# Altium integrated library Microchip Mixed Signal.IntLib: 1063 symbols (part 15 of 28)
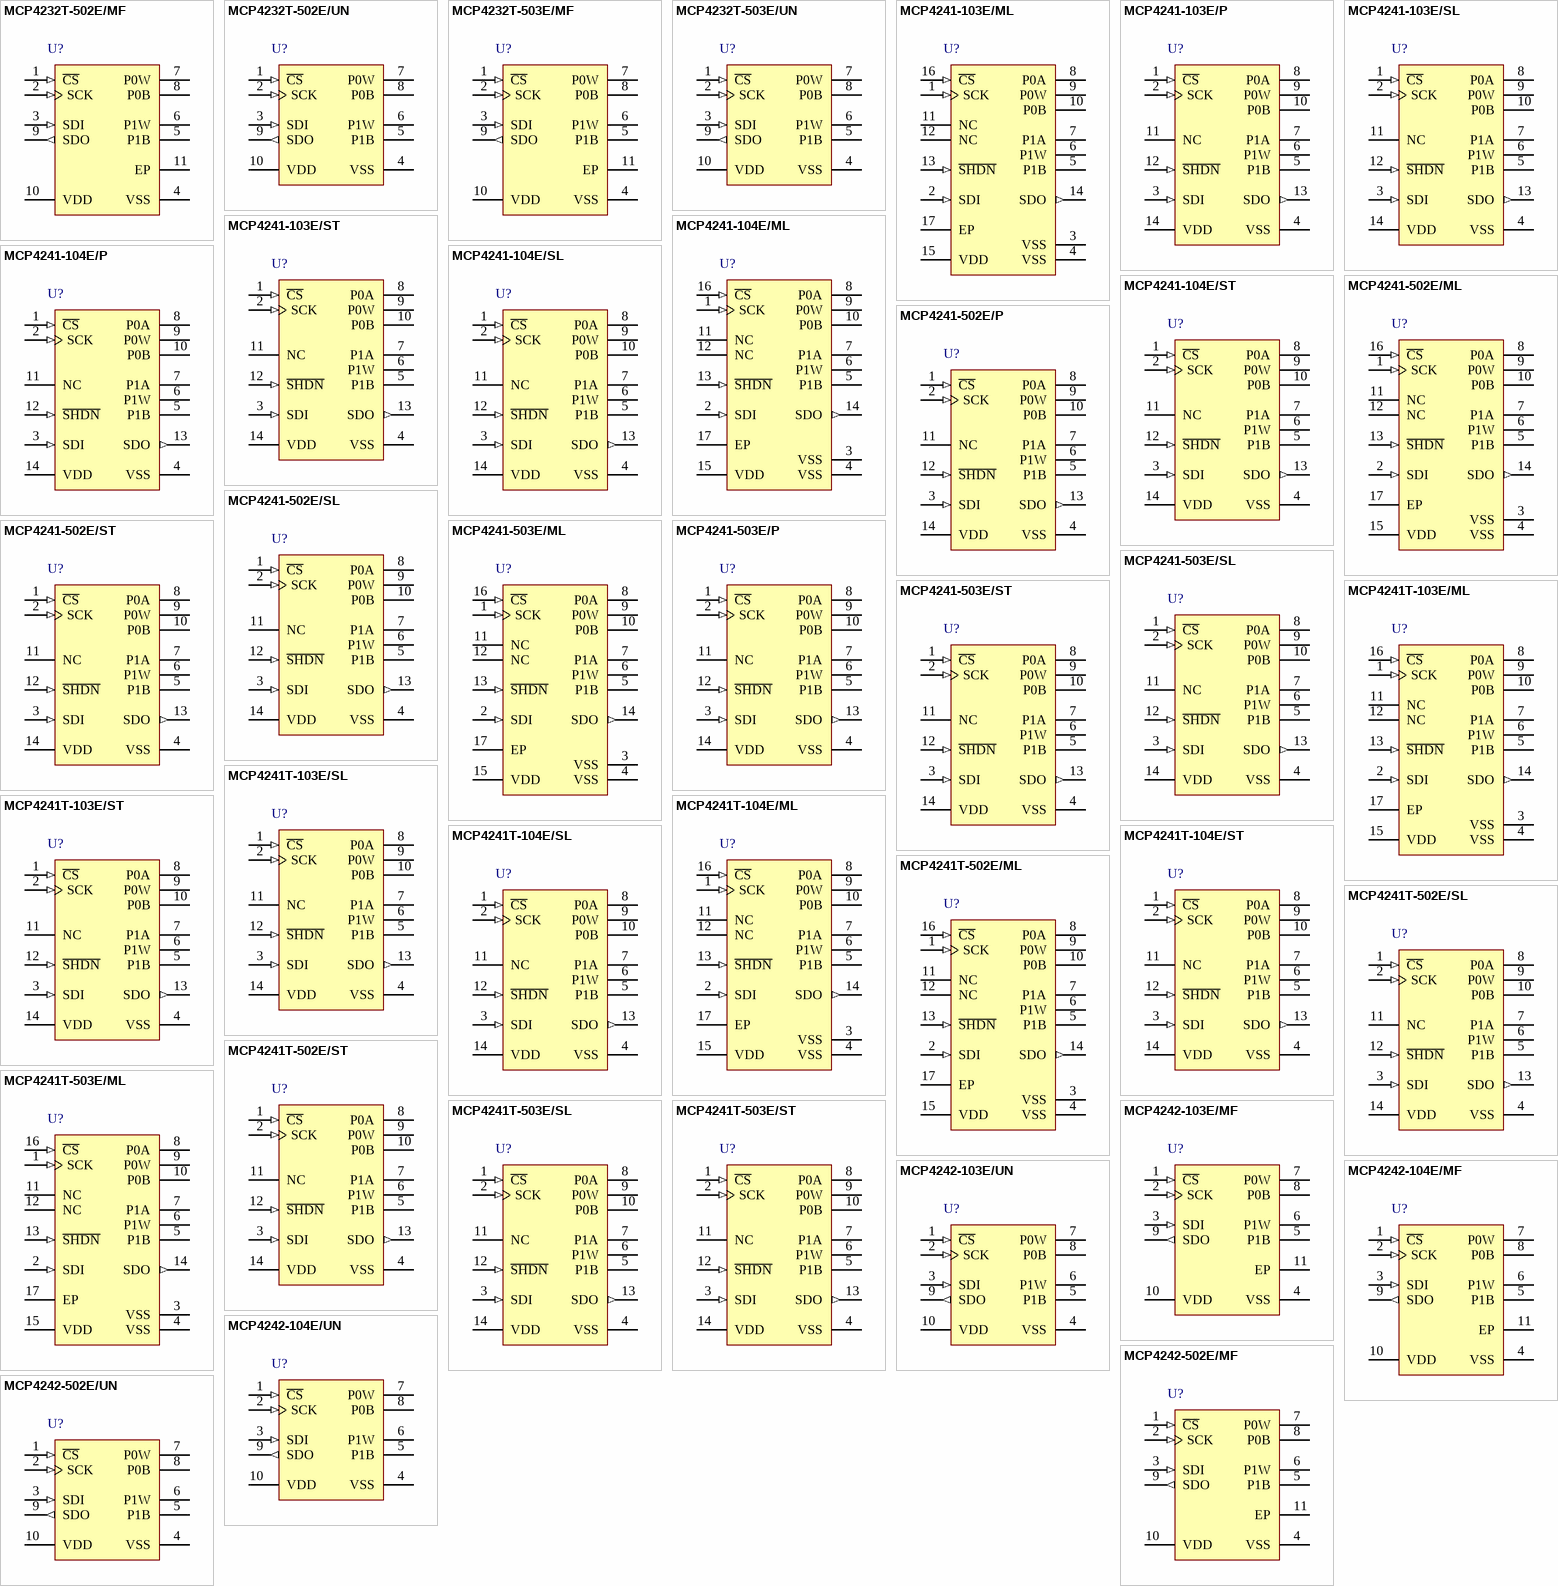
[diagram p45: symbols MCP4232T-502E/MF to MCP4242-502E/UN]

## MCP4241-503E/ML
designator U?
7/8-Bit Single/Dual SPI Digital POT with Non-Volatile Memory, 16-Pin QFN, Extended Temperature; Published: 29-Jan-2009; LatestRevisionDate: 02-Dec-2009; LatestRevisionNote: Updated to datasheet revision B, Dec-2008; DatasheetVersion: revB, Dec-2008; PackageVersion: revBB, Aug-2009; PackageReference: QFN-ML16; Publisher: Altium Limited; PackageDescription: 16-Lead Plastic Quad Flat, No Lead Package (ML) - 4x4x0.9 mm Body [QFN]; Supplier 1: Digi-Key; Supplier Part Number 1: MCP4241-503E/ML-ND; Code_JEDEC: MO-220; Code_IPC: QFN65P400X400-16V2; ComponentLink1Description: Datasheet; ComponentLink1URL: http://ww1.microchip.com/downloads/en/DeviceDoc/22059b.pdf; ComponentLink2Description: Packaging Specification; ComponentLink2URL: http://www.microchip.com/stellent/groups/techpub_sg/documents/packagingspec/en012702.pdf; ComponentLink3Description: Microchip.com Home; ComponentLink3URL: http://www.microchip.com/
footprint QFN-ML16_N (QFN, 16-Leads, Body 4x4 mm, Pitch 0.65mm, IPC Medium Density)
footprint QFN-ML16_L (QFN, 16-Leads, Body 4x4 mm, Pitch 0.65mm, IPC High Density)
footprint QFN-ML16_M (QFN, 16-Leads, Body 4x4 mm, Pitch 0.65mm, IPC Low Density)
pins: 1 SCK (in), 2 SDI (in), 3 VSS (power), 4 VSS (power), 5 P1B, 6 P1W, 7 P1A, 8 P0A, 9 P0W, 10 P0B, 11 NC, 12 NC, 13 ~{SHDN} (in), 14 SDO (out), 15 VDD (power), 16 ~{CS} (in), 17 EP

## MCP4241-503E/P
designator U?
7/8-Bit Single/Dual SPI Digital POT with Non-Volatile Memory, 14-Pin PDIP, Extended Temperature; Published: 29-Jan-2009; LatestRevisionDate: 02-Dec-2009; LatestRevisionNote: Updated to datasheet revision B, Dec-2008; DatasheetVersion: revB, Dec-2008; PackageVersion: revBB, Aug-2009; PackageReference: PDIP300-P14; Publisher: Altium Limited; PackageDescription: 14-Lead Plastic Dual In-Line (P) - 300 mil Body [PDIP]; Supplier 1: Digi-Key; Supplier Part Number 1: MCP4241-503E/P-ND; ComponentLink1Description: Datasheet; ComponentLink1URL: http://ww1.microchip.com/downloads/en/DeviceDoc/22059b.pdf; ComponentLink2Description: Packaging Specification; ComponentLink2URL: http://www.microchip.com/stellent/groups/techpub_sg/documents/packagingspec/en012702.pdf; ComponentLink3Description: Microchip.com Home; ComponentLink3URL: http://www.microchip.com/
footprint PDIP300-P14 (DIP, 14-Leads, Row Spacing 7.62mm, Pitch 2.54mm, Body 19.2x6.6mm)
pins: 1 ~{CS} (in), 2 SCK (in), 3 SDI (in), 4 VSS (power), 5 P1B, 6 P1W, 7 P1A, 8 P0A, 9 P0W, 10 P0B, 11 NC, 12 ~{SHDN} (in), 13 SDO (out), 14 VDD (power)

## MCP4241-503E/SL
designator U?
7/8-Bit Single/Dual SPI Digital POT with Non-Volatile Memory, 14-Pin SOIC 150mil, Extended Temperature; Published: 29-Jan-2009; LatestRevisionDate: 02-Dec-2009; LatestRevisionNote: Updated to datasheet revision B, Dec-2008; DatasheetVersion: revB, Dec-2008; PackageVersion: revBB, Aug-2009; PackageReference: SOIC-SL14; Publisher: Altium Limited; PackageDescription: 14-Lead Plastic Small Outline (SL) - Narrow, 3.90mm Body [SOIC]; Supplier 1: Digi-Key; Supplier Part Number 1: MCP4241-503E/SL-ND; Code_JEDEC: MS-012-AB; Code_IPC: SOIC127P600-14; ComponentLink1Description: Datasheet; ComponentLink1URL: http://ww1.microchip.com/downloads/en/DeviceDoc/22059b.pdf; ComponentLink2Description: Packaging Specification; ComponentLink2URL: http://www.microchip.com/stellent/groups/techpub_sg/documents/packagingspec/en012702.pdf; ComponentLink3Description: Microchip.com Home; ComponentLink3URL: http://www.microchip.com/
footprint SOIC-SL14_N (SOIC, 14-Leads, Body 8.7x3.9mm, Pitch 1.27mm, IPC Medium Density)
footprint SOIC-SL14_L (SOIC, 14-Leads, Body 8.7x3.9mm, Pitch 1.27mm, IPC High Density)
footprint SOIC-SL14_M (SOIC, 14-Leads, Body 8.7x3.9mm, Pitch 1.27mm, IPC Low Density)
pins: 1 ~{CS} (in), 2 SCK (in), 3 SDI (in), 4 VSS (power), 5 P1B, 6 P1W, 7 P1A, 8 P0A, 9 P0W, 10 P0B, 11 NC, 12 ~{SHDN} (in), 13 SDO (out), 14 VDD (power)

## MCP4241-503E/ST
designator U?
7/8-Bit Single/Dual SPI Digital POT with Non-Volatile Memory, 14-Pin TSSOP, Extended Temperature; Published: 29-Jan-2009; LatestRevisionDate: 02-Dec-2009; LatestRevisionNote: Updated to datasheet revision B, Dec-2008; DatasheetVersion: revB, Dec-2008; PackageVersion: revBB, Aug-2009; PackageReference: TSSOP-ST14; Publisher: Altium Limited; PackageDescription: 14-Lead Plastic Thin Shrink Small Outline (ST) - 4.4mm Body [TSSOP]; Supplier 1: Digi-Key; Supplier Part Number 1: MCP4241-503E/ST-ND; ComponentLink1Description: Datasheet; ComponentLink1URL: http://ww1.microchip.com/downloads/en/DeviceDoc/22059b.pdf; ComponentLink2Description: Packaging Specification; ComponentLink2URL: http://www.microchip.com/stellent/groups/techpub_sg/documents/packagingspec/en012702.pdf; ComponentLink3Description: Microchip.com Home; ComponentLink3URL: http://www.microchip.com/
footprint TSSOP-ST14_N (TSOP, 14-Leads, Body 5x4.4mm, Pitch 0.65mm, IPC Medium Density)
footprint TSSOP-ST14_L (TSOP, 14-Leads, Body 5x4.4mm, Pitch 0.65mm, IPC High Density)
footprint TSSOP-ST14_M (TSOP, 14-Leads, Body 5x4.4mm, Pitch 0.65mm, IPC Low Density)
pins: 1 ~{CS} (in), 2 SCK (in), 3 SDI (in), 4 VSS (power), 5 P1B, 6 P1W, 7 P1A, 8 P0A, 9 P0W, 10 P0B, 11 NC, 12 ~{SHDN} (in), 13 SDO (out), 14 VDD (power)

## MCP4241T-103E/ML
designator U?
7/8-Bit Single/Dual SPI Digital POT with Non-Volatile Memory, 16-Pin QFN, Extended Temperature, Tape and Reel; Published: 29-Jan-2009; LatestRevisionDate: 02-Dec-2009; LatestRevisionNote: Updated to datasheet revision B, Dec-2008; DatasheetVersion: revB, Dec-2008; PackageVersion: revBB, Aug-2009; PackageReference: QFN-ML16; Publisher: Altium Limited; PackageDescription: 16-Lead Plastic Quad Flat, No Lead Package (ML) - 4x4x0.9 mm Body [QFN]; Supplier 1: Digi-Key; Supplier Part Number 1: MCP4241T-103E/MLTR-ND; Code_JEDEC: MO-220; Code_IPC: QFN65P400X400-16V2; ComponentLink1Description: Datasheet; ComponentLink1URL: http://ww1.microchip.com/downloads/en/DeviceDoc/22059b.pdf; ComponentLink2Description: Packaging Specification; ComponentLink2URL: http://www.microchip.com/stellent/groups/techpub_sg/documents/packagingspec/en012702.pdf; ComponentLink3Description: Microchip.com Home; ComponentLink3URL: http://www.microchip.com/
footprint QFN-ML16_N (QFN, 16-Leads, Body 4x4 mm, Pitch 0.65mm, IPC Medium Density)
footprint QFN-ML16_L (QFN, 16-Leads, Body 4x4 mm, Pitch 0.65mm, IPC High Density)
footprint QFN-ML16_M (QFN, 16-Leads, Body 4x4 mm, Pitch 0.65mm, IPC Low Density)
pins: 1 SCK (in), 2 SDI (in), 3 VSS (power), 4 VSS (power), 5 P1B, 6 P1W, 7 P1A, 8 P0A, 9 P0W, 10 P0B, 11 NC, 12 NC, 13 ~{SHDN} (in), 14 SDO (out), 15 VDD (power), 16 ~{CS} (in), 17 EP

## MCP4241T-103E/SL
designator U?
7/8-Bit Single/Dual SPI Digital POT with Non-Volatile Memory, 14-Pin SOIC 150mil, Extended Temperature, Tape and Reel; Published: 29-Jan-2009; LatestRevisionDate: 02-Dec-2009; LatestRevisionNote: Updated to datasheet revision B, Dec-2008; DatasheetVersion: revB, Dec-2008; PackageVersion: revBB, Aug-2009; PackageReference: SOIC-SL14; Publisher: Altium Limited; PackageDescription: 14-Lead Plastic Small Outline (SL) - Narrow, 3.90mm Body [SOIC]; Supplier 1: Digi-Key; Supplier Part Number 1: MCP4241T-103E/SLTR-ND; Code_JEDEC: MS-012-AB; Code_IPC: SOIC127P600-14; ComponentLink1Description: Datasheet; ComponentLink1URL: http://ww1.microchip.com/downloads/en/DeviceDoc/22059b.pdf; ComponentLink2Description: Packaging Specification; ComponentLink2URL: http://www.microchip.com/stellent/groups/techpub_sg/documents/packagingspec/en012702.pdf; ComponentLink3Description: Microchip.com Home; ComponentLink3URL: http://www.microchip.com/
footprint SOIC-SL14_N (SOIC, 14-Leads, Body 8.7x3.9mm, Pitch 1.27mm, IPC Medium Density)
footprint SOIC-SL14_L (SOIC, 14-Leads, Body 8.7x3.9mm, Pitch 1.27mm, IPC High Density)
footprint SOIC-SL14_M (SOIC, 14-Leads, Body 8.7x3.9mm, Pitch 1.27mm, IPC Low Density)
pins: 1 ~{CS} (in), 2 SCK (in), 3 SDI (in), 4 VSS (power), 5 P1B, 6 P1W, 7 P1A, 8 P0A, 9 P0W, 10 P0B, 11 NC, 12 ~{SHDN} (in), 13 SDO (out), 14 VDD (power)

## MCP4241T-103E/ST
designator U?
7/8-Bit Single/Dual SPI Digital POT with Non-Volatile Memory, 14-Pin TSSOP, Extended Temperature, Tape and Reel; Published: 29-Jan-2009; LatestRevisionDate: 02-Dec-2009; LatestRevisionNote: Updated to datasheet revision B, Dec-2008; DatasheetVersion: revB, Dec-2008; PackageVersion: revBB, Aug-2009; PackageReference: TSSOP-ST14; Publisher: Altium Limited; PackageDescription: 14-Lead Plastic Thin Shrink Small Outline (ST) - 4.4mm Body [TSSOP]; Supplier 1: Digi-Key; Supplier Part Number 1: MCP4241T-103E/STTR-ND; ComponentLink1Description: Datasheet; ComponentLink1URL: http://ww1.microchip.com/downloads/en/DeviceDoc/22059b.pdf; ComponentLink2Description: Packaging Specification; ComponentLink2URL: http://www.microchip.com/stellent/groups/techpub_sg/documents/packagingspec/en012702.pdf; ComponentLink3Description: Microchip.com Home; ComponentLink3URL: http://www.microchip.com/
footprint TSSOP-ST14_N (TSOP, 14-Leads, Body 5x4.4mm, Pitch 0.65mm, IPC Medium Density)
footprint TSSOP-ST14_L (TSOP, 14-Leads, Body 5x4.4mm, Pitch 0.65mm, IPC High Density)
footprint TSSOP-ST14_M (TSOP, 14-Leads, Body 5x4.4mm, Pitch 0.65mm, IPC Low Density)
pins: 1 ~{CS} (in), 2 SCK (in), 3 SDI (in), 4 VSS (power), 5 P1B, 6 P1W, 7 P1A, 8 P0A, 9 P0W, 10 P0B, 11 NC, 12 ~{SHDN} (in), 13 SDO (out), 14 VDD (power)

## MCP4241T-104E/ML
designator U?
7/8-Bit Single/Dual SPI Digital POT with Non-Volatile Memory, 16-Pin QFN, Extended Temperature, Tape and Reel; Published: 29-Jan-2009; LatestRevisionDate: 02-Dec-2009; LatestRevisionNote: Updated to datasheet revision B, Dec-2008; DatasheetVersion: revB, Dec-2008; PackageVersion: revBB, Aug-2009; PackageReference: QFN-ML16; Publisher: Altium Limited; PackageDescription: 16-Lead Plastic Quad Flat, No Lead Package (ML) - 4x4x0.9 mm Body [QFN]; Supplier 1: Digi-Key; Supplier Part Number 1: MCP4241T-104E/MLTR-ND; Code_JEDEC: MO-220; Code_IPC: QFN65P400X400-16V2; ComponentLink1Description: Datasheet; ComponentLink1URL: http://ww1.microchip.com/downloads/en/DeviceDoc/22059b.pdf; ComponentLink2Description: Packaging Specification; ComponentLink2URL: http://www.microchip.com/stellent/groups/techpub_sg/documents/packagingspec/en012702.pdf; ComponentLink3Description: Microchip.com Home; ComponentLink3URL: http://www.microchip.com/
footprint QFN-ML16_N (QFN, 16-Leads, Body 4x4 mm, Pitch 0.65mm, IPC Medium Density)
footprint QFN-ML16_L (QFN, 16-Leads, Body 4x4 mm, Pitch 0.65mm, IPC High Density)
footprint QFN-ML16_M (QFN, 16-Leads, Body 4x4 mm, Pitch 0.65mm, IPC Low Density)
pins: 1 SCK (in), 2 SDI (in), 3 VSS (power), 4 VSS (power), 5 P1B, 6 P1W, 7 P1A, 8 P0A, 9 P0W, 10 P0B, 11 NC, 12 NC, 13 ~{SHDN} (in), 14 SDO (out), 15 VDD (power), 16 ~{CS} (in), 17 EP

## MCP4241T-104E/SL
designator U?
7/8-Bit Single/Dual SPI Digital POT with Non-Volatile Memory, 14-Pin SOIC 150mil, Extended Temperature, Tape and Reel; Published: 29-Jan-2009; LatestRevisionDate: 02-Dec-2009; LatestRevisionNote: Updated to datasheet revision B, Dec-2008; DatasheetVersion: revB, Dec-2008; PackageVersion: revBB, Aug-2009; PackageReference: SOIC-SL14; Publisher: Altium Limited; PackageDescription: 14-Lead Plastic Small Outline (SL) - Narrow, 3.90mm Body [SOIC]; Supplier 1: Digi-Key; Supplier Part Number 1: MCP4241T-104E/SLTR-ND; Code_JEDEC: MS-012-AB; Code_IPC: SOIC127P600-14; ComponentLink1Description: Datasheet; ComponentLink1URL: http://ww1.microchip.com/downloads/en/DeviceDoc/22059b.pdf; ComponentLink2Description: Packaging Specification; ComponentLink2URL: http://www.microchip.com/stellent/groups/techpub_sg/documents/packagingspec/en012702.pdf; ComponentLink3Description: Microchip.com Home; ComponentLink3URL: http://www.microchip.com/
footprint SOIC-SL14_N (SOIC, 14-Leads, Body 8.7x3.9mm, Pitch 1.27mm, IPC Medium Density)
footprint SOIC-SL14_L (SOIC, 14-Leads, Body 8.7x3.9mm, Pitch 1.27mm, IPC High Density)
footprint SOIC-SL14_M (SOIC, 14-Leads, Body 8.7x3.9mm, Pitch 1.27mm, IPC Low Density)
pins: 1 ~{CS} (in), 2 SCK (in), 3 SDI (in), 4 VSS (power), 5 P1B, 6 P1W, 7 P1A, 8 P0A, 9 P0W, 10 P0B, 11 NC, 12 ~{SHDN} (in), 13 SDO (out), 14 VDD (power)

## MCP4241T-104E/ST
designator U?
7/8-Bit Single/Dual SPI Digital POT with Non-Volatile Memory, 14-Pin TSSOP, Extended Temperature, Tape and Reel; Published: 29-Jan-2009; LatestRevisionDate: 02-Dec-2009; LatestRevisionNote: Updated to datasheet revision B, Dec-2008; DatasheetVersion: revB, Dec-2008; PackageVersion: revBB, Aug-2009; PackageReference: TSSOP-ST14; Publisher: Altium Limited; PackageDescription: 14-Lead Plastic Thin Shrink Small Outline (ST) - 4.4mm Body [TSSOP]; Supplier 1: Digi-Key; Supplier Part Number 1: MCP4241T-104E/STTR-ND; ComponentLink1Description: Datasheet; ComponentLink1URL: http://ww1.microchip.com/downloads/en/DeviceDoc/22059b.pdf; ComponentLink2Description: Packaging Specification; ComponentLink2URL: http://www.microchip.com/stellent/groups/techpub_sg/documents/packagingspec/en012702.pdf; ComponentLink3Description: Microchip.com Home; ComponentLink3URL: http://www.microchip.com/
footprint TSSOP-ST14_N (TSOP, 14-Leads, Body 5x4.4mm, Pitch 0.65mm, IPC Medium Density)
footprint TSSOP-ST14_L (TSOP, 14-Leads, Body 5x4.4mm, Pitch 0.65mm, IPC High Density)
footprint TSSOP-ST14_M (TSOP, 14-Leads, Body 5x4.4mm, Pitch 0.65mm, IPC Low Density)
pins: 1 ~{CS} (in), 2 SCK (in), 3 SDI (in), 4 VSS (power), 5 P1B, 6 P1W, 7 P1A, 8 P0A, 9 P0W, 10 P0B, 11 NC, 12 ~{SHDN} (in), 13 SDO (out), 14 VDD (power)

## MCP4241T-502E/ML
designator U?
7/8-Bit Single/Dual SPI Digital POT with Non-Volatile Memory, 16-Pin QFN, Extended Temperature, Tape and Reel; Published: 29-Jan-2009; LatestRevisionDate: 02-Dec-2009; LatestRevisionNote: Updated to datasheet revision B, Dec-2008; DatasheetVersion: revB, Dec-2008; PackageVersion: revBB, Aug-2009; PackageReference: QFN-ML16; Publisher: Altium Limited; PackageDescription: 16-Lead Plastic Quad Flat, No Lead Package (ML) - 4x4x0.9 mm Body [QFN]; Supplier 1: Digi-Key; Supplier Part Number 1: MCP4241T-502E/MLTR-ND; Code_JEDEC: MO-220; Code_IPC: QFN65P400X400-16V2; ComponentLink1Description: Datasheet; ComponentLink1URL: http://ww1.microchip.com/downloads/en/DeviceDoc/22059b.pdf; ComponentLink2Description: Packaging Specification; ComponentLink2URL: http://www.microchip.com/stellent/groups/techpub_sg/documents/packagingspec/en012702.pdf; ComponentLink3Description: Microchip.com Home; ComponentLink3URL: http://www.microchip.com/
footprint QFN-ML16_N (QFN, 16-Leads, Body 4x4 mm, Pitch 0.65mm, IPC Medium Density)
footprint QFN-ML16_L (QFN, 16-Leads, Body 4x4 mm, Pitch 0.65mm, IPC High Density)
footprint QFN-ML16_M (QFN, 16-Leads, Body 4x4 mm, Pitch 0.65mm, IPC Low Density)
pins: 1 SCK (in), 2 SDI (in), 3 VSS (power), 4 VSS (power), 5 P1B, 6 P1W, 7 P1A, 8 P0A, 9 P0W, 10 P0B, 11 NC, 12 NC, 13 ~{SHDN} (in), 14 SDO (out), 15 VDD (power), 16 ~{CS} (in), 17 EP

## MCP4241T-502E/SL
designator U?
7/8-Bit Single/Dual SPI Digital POT with Non-Volatile Memory, 14-Pin SOIC 150mil, Extended Temperature, Tape and Reel; Published: 29-Jan-2009; LatestRevisionDate: 02-Dec-2009; LatestRevisionNote: Updated to datasheet revision B, Dec-2008; DatasheetVersion: revB, Dec-2008; PackageVersion: revBB, Aug-2009; PackageReference: SOIC-SL14; Publisher: Altium Limited; PackageDescription: 14-Lead Plastic Small Outline (SL) - Narrow, 3.90mm Body [SOIC]; Supplier 1: Digi-Key; Supplier Part Number 1: MCP4241T-502E/SLTR-ND; Code_JEDEC: MS-012-AB; Code_IPC: SOIC127P600-14; ComponentLink1Description: Datasheet; ComponentLink1URL: http://ww1.microchip.com/downloads/en/DeviceDoc/22059b.pdf; ComponentLink2Description: Packaging Specification; ComponentLink2URL: http://www.microchip.com/stellent/groups/techpub_sg/documents/packagingspec/en012702.pdf; ComponentLink3Description: Microchip.com Home; ComponentLink3URL: http://www.microchip.com/
footprint SOIC-SL14_N (SOIC, 14-Leads, Body 8.7x3.9mm, Pitch 1.27mm, IPC Medium Density)
footprint SOIC-SL14_L (SOIC, 14-Leads, Body 8.7x3.9mm, Pitch 1.27mm, IPC High Density)
footprint SOIC-SL14_M (SOIC, 14-Leads, Body 8.7x3.9mm, Pitch 1.27mm, IPC Low Density)
pins: 1 ~{CS} (in), 2 SCK (in), 3 SDI (in), 4 VSS (power), 5 P1B, 6 P1W, 7 P1A, 8 P0A, 9 P0W, 10 P0B, 11 NC, 12 ~{SHDN} (in), 13 SDO (out), 14 VDD (power)

## MCP4241T-502E/ST
designator U?
7/8-Bit Single/Dual SPI Digital POT with Non-Volatile Memory, 14-Pin TSSOP, Extended Temperature, Tape and Reel; Published: 29-Jan-2009; LatestRevisionDate: 02-Dec-2009; LatestRevisionNote: Updated to datasheet revision B, Dec-2008; DatasheetVersion: revB, Dec-2008; PackageVersion: revBB, Aug-2009; PackageReference: TSSOP-ST14; Publisher: Altium Limited; PackageDescription: 14-Lead Plastic Thin Shrink Small Outline (ST) - 4.4mm Body [TSSOP]; Supplier 1: Digi-Key; Supplier Part Number 1: MCP4241T-502E/STTR-ND; ComponentLink1Description: Datasheet; ComponentLink1URL: http://ww1.microchip.com/downloads/en/DeviceDoc/22059b.pdf; ComponentLink2Description: Packaging Specification; ComponentLink2URL: http://www.microchip.com/stellent/groups/techpub_sg/documents/packagingspec/en012702.pdf; ComponentLink3Description: Microchip.com Home; ComponentLink3URL: http://www.microchip.com/
footprint TSSOP-ST14_N (TSOP, 14-Leads, Body 5x4.4mm, Pitch 0.65mm, IPC Medium Density)
footprint TSSOP-ST14_L (TSOP, 14-Leads, Body 5x4.4mm, Pitch 0.65mm, IPC High Density)
footprint TSSOP-ST14_M (TSOP, 14-Leads, Body 5x4.4mm, Pitch 0.65mm, IPC Low Density)
pins: 1 ~{CS} (in), 2 SCK (in), 3 SDI (in), 4 VSS (power), 5 P1B, 6 P1W, 7 P1A, 8 P0A, 9 P0W, 10 P0B, 11 NC, 12 ~{SHDN} (in), 13 SDO (out), 14 VDD (power)

## MCP4241T-503E/ML
designator U?
7/8-Bit Single/Dual SPI Digital POT with Non-Volatile Memory, 16-Pin QFN, Extended Temperature, Tape and Reel; Published: 29-Jan-2009; LatestRevisionDate: 02-Dec-2009; LatestRevisionNote: Updated to datasheet revision B, Dec-2008; DatasheetVersion: revB, Dec-2008; PackageVersion: revBB, Aug-2009; PackageReference: QFN-ML16; Publisher: Altium Limited; PackageDescription: 16-Lead Plastic Quad Flat, No Lead Package (ML) - 4x4x0.9 mm Body [QFN]; Supplier 1: Digi-Key; Supplier Part Number 1: MCP4241T-503E/MLTR-ND; Code_JEDEC: MO-220; Code_IPC: QFN65P400X400-16V2; ComponentLink1Description: Datasheet; ComponentLink1URL: http://ww1.microchip.com/downloads/en/DeviceDoc/22059b.pdf; ComponentLink2Description: Packaging Specification; ComponentLink2URL: http://www.microchip.com/stellent/groups/techpub_sg/documents/packagingspec/en012702.pdf; ComponentLink3Description: Microchip.com Home; ComponentLink3URL: http://www.microchip.com/
footprint QFN-ML16_N (QFN, 16-Leads, Body 4x4 mm, Pitch 0.65mm, IPC Medium Density)
footprint QFN-ML16_L (QFN, 16-Leads, Body 4x4 mm, Pitch 0.65mm, IPC High Density)
footprint QFN-ML16_M (QFN, 16-Leads, Body 4x4 mm, Pitch 0.65mm, IPC Low Density)
pins: 1 SCK (in), 2 SDI (in), 3 VSS (power), 4 VSS (power), 5 P1B, 6 P1W, 7 P1A, 8 P0A, 9 P0W, 10 P0B, 11 NC, 12 NC, 13 ~{SHDN} (in), 14 SDO (out), 15 VDD (power), 16 ~{CS} (in), 17 EP

## MCP4241T-503E/SL
designator U?
7/8-Bit Single/Dual SPI Digital POT with Non-Volatile Memory, 14-Pin SOIC 150mil, Extended Temperature, Tape and Reel; Published: 29-Jan-2009; LatestRevisionDate: 02-Dec-2009; LatestRevisionNote: Updated to datasheet revision B, Dec-2008; DatasheetVersion: revB, Dec-2008; PackageVersion: revBB, Aug-2009; PackageReference: SOIC-SL14; Publisher: Altium Limited; PackageDescription: 14-Lead Plastic Small Outline (SL) - Narrow, 3.90mm Body [SOIC]; Supplier 1: Digi-Key; Supplier Part Number 1: MCP4241T-503E/SLTR-ND; Code_JEDEC: MS-012-AB; Code_IPC: SOIC127P600-14; ComponentLink1Description: Datasheet; ComponentLink1URL: http://ww1.microchip.com/downloads/en/DeviceDoc/22059b.pdf; ComponentLink2Description: Packaging Specification; ComponentLink2URL: http://www.microchip.com/stellent/groups/techpub_sg/documents/packagingspec/en012702.pdf; ComponentLink3Description: Microchip.com Home; ComponentLink3URL: http://www.microchip.com/
footprint SOIC-SL14_N (SOIC, 14-Leads, Body 8.7x3.9mm, Pitch 1.27mm, IPC Medium Density)
footprint SOIC-SL14_L (SOIC, 14-Leads, Body 8.7x3.9mm, Pitch 1.27mm, IPC High Density)
footprint SOIC-SL14_M (SOIC, 14-Leads, Body 8.7x3.9mm, Pitch 1.27mm, IPC Low Density)
pins: 1 ~{CS} (in), 2 SCK (in), 3 SDI (in), 4 VSS (power), 5 P1B, 6 P1W, 7 P1A, 8 P0A, 9 P0W, 10 P0B, 11 NC, 12 ~{SHDN} (in), 13 SDO (out), 14 VDD (power)

## MCP4241T-503E/ST
designator U?
7/8-Bit Single/Dual SPI Digital POT with Non-Volatile Memory, 14-Pin TSSOP, Extended Temperature, Tape and Reel; Published: 29-Jan-2009; LatestRevisionDate: 02-Dec-2009; LatestRevisionNote: Updated to datasheet revision B, Dec-2008; DatasheetVersion: revB, Dec-2008; PackageVersion: revBB, Aug-2009; PackageReference: TSSOP-ST14; Publisher: Altium Limited; PackageDescription: 14-Lead Plastic Thin Shrink Small Outline (ST) - 4.4mm Body [TSSOP]; Supplier 1: Digi-Key; Supplier Part Number 1: MCP4241T-503E/STTR-ND; ComponentLink1Description: Datasheet; ComponentLink1URL: http://ww1.microchip.com/downloads/en/DeviceDoc/22059b.pdf; ComponentLink2Description: Packaging Specification; ComponentLink2URL: http://www.microchip.com/stellent/groups/techpub_sg/documents/packagingspec/en012702.pdf; ComponentLink3Description: Microchip.com Home; ComponentLink3URL: http://www.microchip.com/
footprint TSSOP-ST14_N (TSOP, 14-Leads, Body 5x4.4mm, Pitch 0.65mm, IPC Medium Density)
footprint TSSOP-ST14_L (TSOP, 14-Leads, Body 5x4.4mm, Pitch 0.65mm, IPC High Density)
footprint TSSOP-ST14_M (TSOP, 14-Leads, Body 5x4.4mm, Pitch 0.65mm, IPC Low Density)
pins: 1 ~{CS} (in), 2 SCK (in), 3 SDI (in), 4 VSS (power), 5 P1B, 6 P1W, 7 P1A, 8 P0A, 9 P0W, 10 P0B, 11 NC, 12 ~{SHDN} (in), 13 SDO (out), 14 VDD (power)

## MCP4242-103E/MF
designator U?
7/8-Bit Single/Dual SPI Digital POT with Non-Volatile Memory, 10-Pin DFN, Extended Temperature; Published: 29-Jan-2009; LatestRevisionDate: 02-Dec-2009; LatestRevisionNote: Updated to datasheet revision B, Dec-2008; DatasheetVersion: revB, Dec-2008; PackageVersion: revBB, Aug-2009; PackageReference: DFN-MF10; Publisher: Altium Limited; PackageDescription: 10-Lead Plastic Dual Flat, No Lead Package (MF) - 3x3x0.9mm Body [DFN]; Supplier 1: Digi-Key; Supplier Part Number 1: MCP4242-103E/MF-ND; ComponentLink1Description: Datasheet; ComponentLink1URL: http://ww1.microchip.com/downloads/en/DeviceDoc/22059b.pdf; ComponentLink2Description: Packaging Specification; ComponentLink2URL: http://www.microchip.com/stellent/groups/techpub_sg/documents/packagingspec/en012702.pdf; ComponentLink3Description: Microchip.com Home; ComponentLink3URL: http://www.microchip.com/
footprint DFN-MF10 (SON, 10-Leads, Body 3x3mm, Pitch 0.5mm, Microchip Recommended)
pins: 1 ~{CS} (in), 2 SCK (in), 3 SDI (in), 4 VSS (power), 5 P1B, 6 P1W, 7 P0W, 8 P0B, 9 SDO (out), 10 VDD (power), 11 EP

## MCP4242-103E/UN
designator U?
7/8-Bit Single/Dual SPI Digital POT with Non-Volatile Memory, 10-Pin MSOP, Extended Temperature; Published: 29-Jan-2009; LatestRevisionDate: 02-Dec-2009; LatestRevisionNote: Updated to datasheet revision B, Dec-2008; DatasheetVersion: revB, Dec-2008; PackageVersion: revBB, Aug-2009; PackageReference: MSOP-UN10; Publisher: Altium Limited; PackageDescription: 10-Lead Plastic Micro Small Outline Package (UN) [MSOP]; Supplier 1: Digi-Key; Supplier Part Number 1: MCP4242-103E/UN-ND; Supplier 2: Farnell; Supplier Part Number 2: 1578441; ComponentLink1Description: Datasheet; ComponentLink1URL: http://ww1.microchip.com/downloads/en/DeviceDoc/22059b.pdf; ComponentLink2Description: Packaging Specification; ComponentLink2URL: http://www.microchip.com/stellent/groups/techpub_sg/documents/packagingspec/en012702.pdf; ComponentLink3Description: Microchip.com Home; ComponentLink3URL: http://www.microchip.com/
footprint MSOP-UN10_N (TSSOP, 10-Leads, Body 3x3mm, Pitch 0.5mm, IPC Medium Density)
footprint MSOP-UN10_L (TSSOP, 10-Leads, Body 3x3mm, Pitch 0.5mm, IPC High Density)
footprint MSOP-UN10_M (TSSOP, 10-Leads, Body 3x3mm, Pitch 0.5mm, IPC Low Density)
pins: 1 ~{CS} (in), 2 SCK (in), 3 SDI (in), 4 VSS (power), 5 P1B, 6 P1W, 7 P0W, 8 P0B, 9 SDO (out), 10 VDD (power)

## MCP4242-104E/MF
designator U?
7/8-Bit Single/Dual SPI Digital POT with Non-Volatile Memory, 10-Pin DFN, Extended Temperature; Published: 29-Jan-2009; LatestRevisionDate: 02-Dec-2009; LatestRevisionNote: Updated to datasheet revision B, Dec-2008; DatasheetVersion: revB, Dec-2008; PackageVersion: revBB, Aug-2009; PackageReference: DFN-MF10; Publisher: Altium Limited; PackageDescription: 10-Lead Plastic Dual Flat, No Lead Package (MF) - 3x3x0.9mm Body [DFN]; Supplier 1: Digi-Key; Supplier Part Number 1: MCP4242-104E/MF-ND; ComponentLink1Description: Datasheet; ComponentLink1URL: http://ww1.microchip.com/downloads/en/DeviceDoc/22059b.pdf; ComponentLink2Description: Packaging Specification; ComponentLink2URL: http://www.microchip.com/stellent/groups/techpub_sg/documents/packagingspec/en012702.pdf; ComponentLink3Description: Microchip.com Home; ComponentLink3URL: http://www.microchip.com/
footprint DFN-MF10 (SON, 10-Leads, Body 3x3mm, Pitch 0.5mm, Microchip Recommended)
pins: 1 ~{CS} (in), 2 SCK (in), 3 SDI (in), 4 VSS (power), 5 P1B, 6 P1W, 7 P0W, 8 P0B, 9 SDO (out), 10 VDD (power), 11 EP

## MCP4242-104E/UN
designator U?
7/8-Bit Single/Dual SPI Digital POT with Non-Volatile Memory, 10-Pin MSOP, Extended Temperature; Published: 29-Jan-2009; LatestRevisionDate: 02-Dec-2009; LatestRevisionNote: Updated to datasheet revision B, Dec-2008; DatasheetVersion: revB, Dec-2008; PackageVersion: revBB, Aug-2009; PackageReference: MSOP-UN10; Publisher: Altium Limited; PackageDescription: 10-Lead Plastic Micro Small Outline Package (UN) [MSOP]; Supplier 1: Digi-Key; Supplier Part Number 1: MCP4242-104E/UN-ND; ComponentLink1Description: Datasheet; ComponentLink1URL: http://ww1.microchip.com/downloads/en/DeviceDoc/22059b.pdf; ComponentLink2Description: Packaging Specification; ComponentLink2URL: http://www.microchip.com/stellent/groups/techpub_sg/documents/packagingspec/en012702.pdf; ComponentLink3Description: Microchip.com Home; ComponentLink3URL: http://www.microchip.com/
footprint MSOP-UN10_N (TSSOP, 10-Leads, Body 3x3mm, Pitch 0.5mm, IPC Medium Density)
footprint MSOP-UN10_L (TSSOP, 10-Leads, Body 3x3mm, Pitch 0.5mm, IPC High Density)
footprint MSOP-UN10_M (TSSOP, 10-Leads, Body 3x3mm, Pitch 0.5mm, IPC Low Density)
pins: 1 ~{CS} (in), 2 SCK (in), 3 SDI (in), 4 VSS (power), 5 P1B, 6 P1W, 7 P0W, 8 P0B, 9 SDO (out), 10 VDD (power)

## MCP4242-502E/MF
designator U?
7/8-Bit Single/Dual SPI Digital POT with Non-Volatile Memory, 10-Pin DFN, Extended Temperature; Published: 29-Jan-2009; LatestRevisionDate: 02-Dec-2009; LatestRevisionNote: Updated to datasheet revision B, Dec-2008; DatasheetVersion: revB, Dec-2008; PackageVersion: revBB, Aug-2009; PackageReference: DFN-MF10; Publisher: Altium Limited; PackageDescription: 10-Lead Plastic Dual Flat, No Lead Package (MF) - 3x3x0.9mm Body [DFN]; Supplier 1: Digi-Key; Supplier Part Number 1: MCP4242-502E/MF-ND; ComponentLink1Description: Datasheet; ComponentLink1URL: http://ww1.microchip.com/downloads/en/DeviceDoc/22059b.pdf; ComponentLink2Description: Packaging Specification; ComponentLink2URL: http://www.microchip.com/stellent/groups/techpub_sg/documents/packagingspec/en012702.pdf; ComponentLink3Description: Microchip.com Home; ComponentLink3URL: http://www.microchip.com/
footprint DFN-MF10 (SON, 10-Leads, Body 3x3mm, Pitch 0.5mm, Microchip Recommended)
pins: 1 ~{CS} (in), 2 SCK (in), 3 SDI (in), 4 VSS (power), 5 P1B, 6 P1W, 7 P0W, 8 P0B, 9 SDO (out), 10 VDD (power), 11 EP

## MCP4242-502E/UN
designator U?
7/8-Bit Single/Dual SPI Digital POT with Non-Volatile Memory, 10-Pin MSOP, Extended Temperature; Published: 29-Jan-2009; LatestRevisionDate: 02-Dec-2009; LatestRevisionNote: Updated to datasheet revision B, Dec-2008; DatasheetVersion: revB, Dec-2008; PackageVersion: revBB, Aug-2009; PackageReference: MSOP-UN10; Publisher: Altium Limited; PackageDescription: 10-Lead Plastic Micro Small Outline Package (UN) [MSOP]; Supplier 1: Digi-Key; Supplier Part Number 1: MCP4242-502E/UN-ND; ComponentLink1Description: Datasheet; ComponentLink1URL: http://ww1.microchip.com/downloads/en/DeviceDoc/22059b.pdf; ComponentLink2Description: Packaging Specification; ComponentLink2URL: http://www.microchip.com/stellent/groups/techpub_sg/documents/packagingspec/en012702.pdf; ComponentLink3Description: Microchip.com Home; ComponentLink3URL: http://www.microchip.com/
footprint MSOP-UN10_N (TSSOP, 10-Leads, Body 3x3mm, Pitch 0.5mm, IPC Medium Density)
footprint MSOP-UN10_L (TSSOP, 10-Leads, Body 3x3mm, Pitch 0.5mm, IPC High Density)
footprint MSOP-UN10_M (TSSOP, 10-Leads, Body 3x3mm, Pitch 0.5mm, IPC Low Density)
pins: 1 ~{CS} (in), 2 SCK (in), 3 SDI (in), 4 VSS (power), 5 P1B, 6 P1W, 7 P0W, 8 P0B, 9 SDO (out), 10 VDD (power)

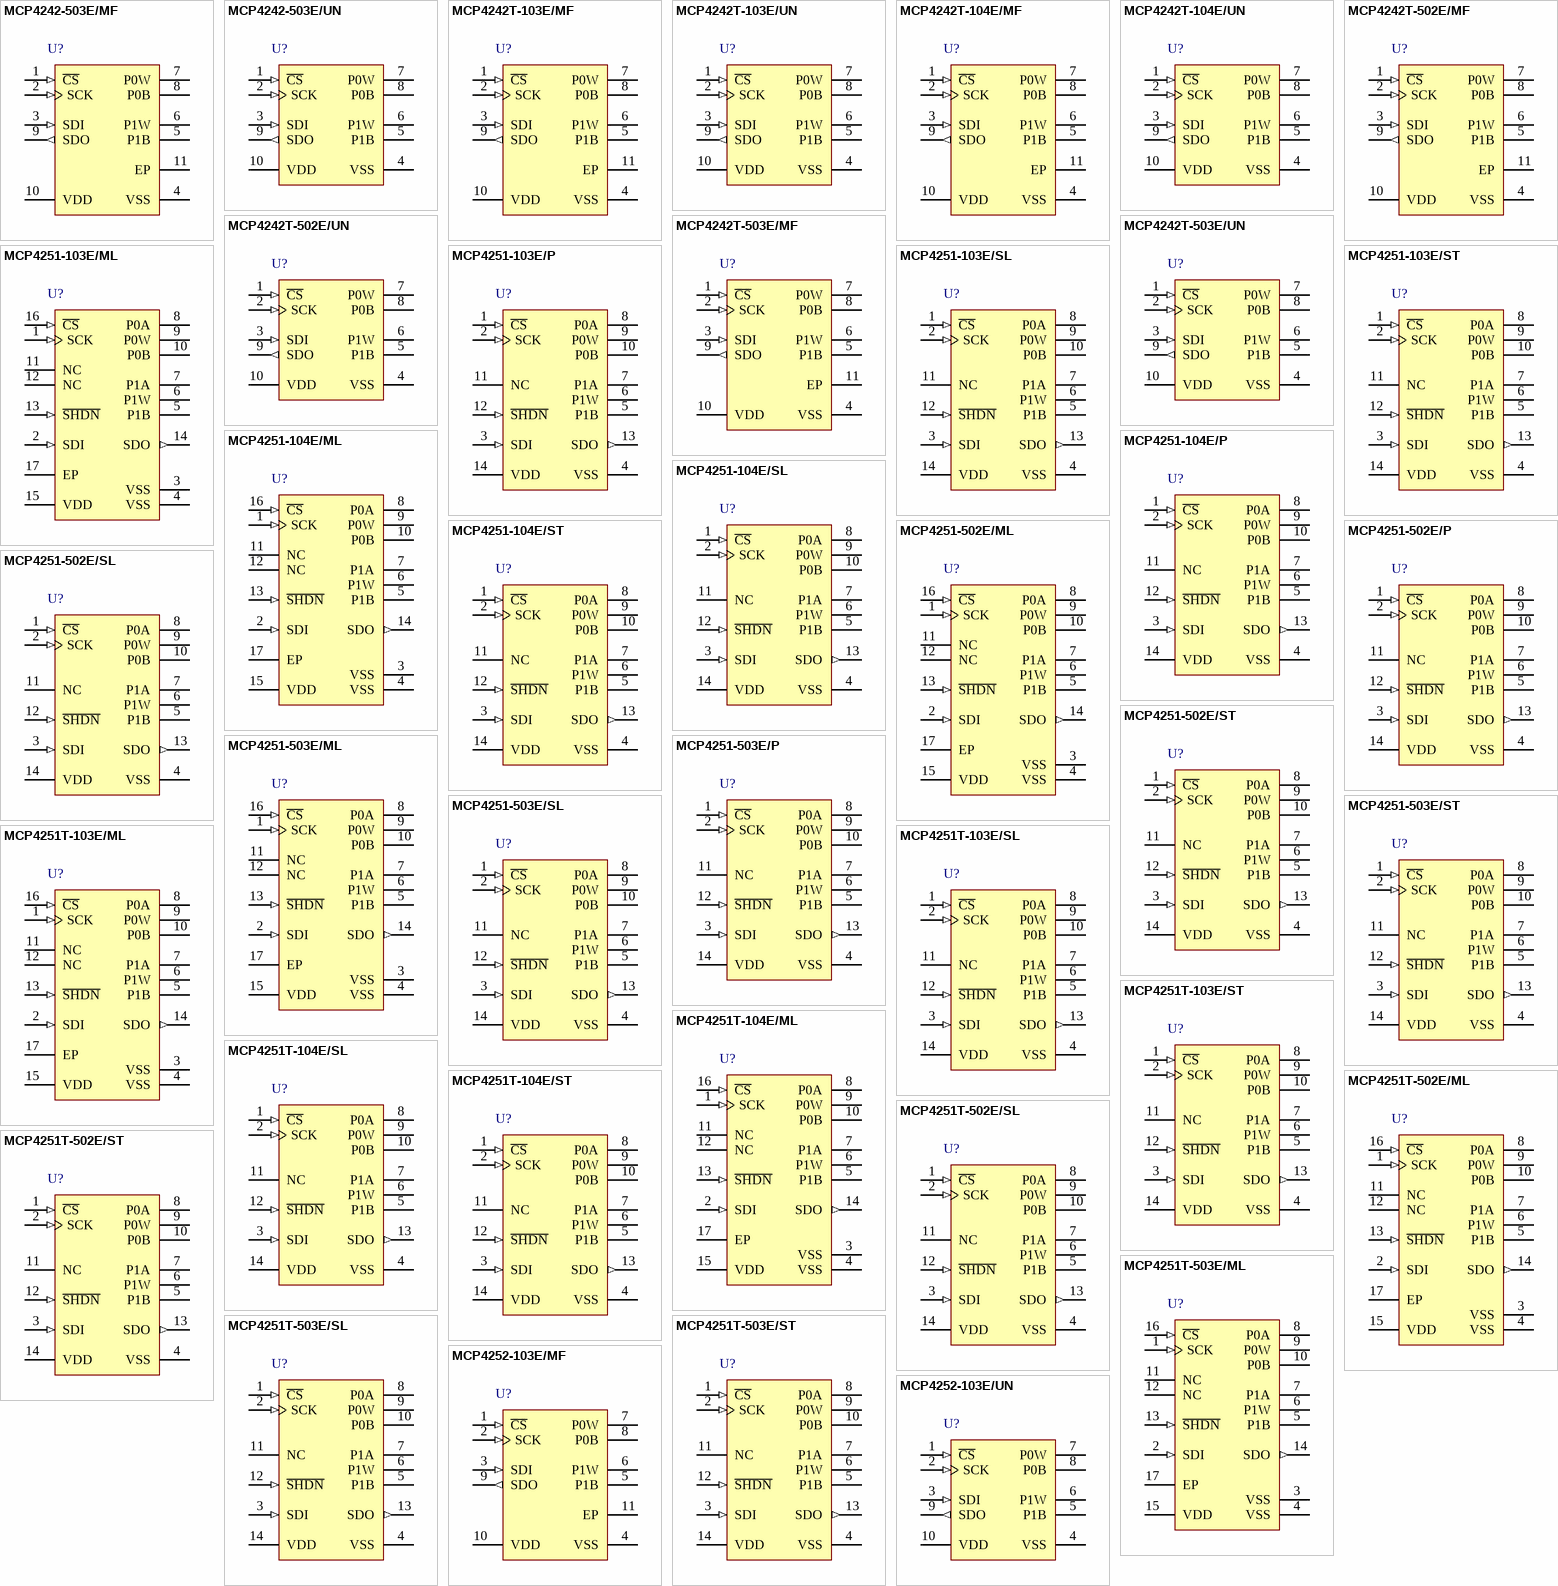
[diagram p15: symbols MCP4242-503E/MF to MCP4252-103E/UN]

## MCP4242-503E/MF
designator U?
7/8-Bit Single/Dual SPI Digital POT with Non-Volatile Memory, 10-Pin DFN, Extended Temperature; Published: 29-Jan-2009; LatestRevisionDate: 02-Dec-2009; LatestRevisionNote: Updated to datasheet revision B, Dec-2008; DatasheetVersion: revB, Dec-2008; PackageVersion: revBB, Aug-2009; PackageReference: DFN-MF10; Publisher: Altium Limited; PackageDescription: 10-Lead Plastic Dual Flat, No Lead Package (MF) - 3x3x0.9mm Body [DFN]; Supplier 1: Digi-Key; Supplier Part Number 1: MCP4242-503E/MF-ND; ComponentLink1Description: Datasheet; ComponentLink1URL: http://ww1.microchip.com/downloads/en/DeviceDoc/22059b.pdf; ComponentLink2Description: Packaging Specification; ComponentLink2URL: http://www.microchip.com/stellent/groups/techpub_sg/documents/packagingspec/en012702.pdf; ComponentLink3Description: Microchip.com Home; ComponentLink3URL: http://www.microchip.com/
footprint DFN-MF10 (SON, 10-Leads, Body 3x3mm, Pitch 0.5mm, Microchip Recommended)
pins: 1 ~{CS} (in), 2 SCK (in), 3 SDI (in), 4 VSS (power), 5 P1B, 6 P1W, 7 P0W, 8 P0B, 9 SDO (out), 10 VDD (power), 11 EP

## MCP4242-503E/UN
designator U?
7/8-Bit Single/Dual SPI Digital POT with Non-Volatile Memory, 10-Pin MSOP, Extended Temperature; Published: 29-Jan-2009; LatestRevisionDate: 02-Dec-2009; LatestRevisionNote: Updated to datasheet revision B, Dec-2008; DatasheetVersion: revB, Dec-2008; PackageVersion: revBB, Aug-2009; PackageReference: MSOP-UN10; Publisher: Altium Limited; PackageDescription: 10-Lead Plastic Micro Small Outline Package (UN) [MSOP]; Supplier 1: Digi-Key; Supplier Part Number 1: MCP4242-503E/UN-ND; ComponentLink1Description: Datasheet; ComponentLink1URL: http://ww1.microchip.com/downloads/en/DeviceDoc/22059b.pdf; ComponentLink2Description: Packaging Specification; ComponentLink2URL: http://www.microchip.com/stellent/groups/techpub_sg/documents/packagingspec/en012702.pdf; ComponentLink3Description: Microchip.com Home; ComponentLink3URL: http://www.microchip.com/
footprint MSOP-UN10_N (TSSOP, 10-Leads, Body 3x3mm, Pitch 0.5mm, IPC Medium Density)
footprint MSOP-UN10_L (TSSOP, 10-Leads, Body 3x3mm, Pitch 0.5mm, IPC High Density)
footprint MSOP-UN10_M (TSSOP, 10-Leads, Body 3x3mm, Pitch 0.5mm, IPC Low Density)
pins: 1 ~{CS} (in), 2 SCK (in), 3 SDI (in), 4 VSS (power), 5 P1B, 6 P1W, 7 P0W, 8 P0B, 9 SDO (out), 10 VDD (power)

## MCP4242T-103E/MF
designator U?
7/8-Bit Single/Dual SPI Digital POT with Non-Volatile Memory, 10-Pin DFN, Extended Temperature, Tape and Reel; Published: 29-Jan-2009; LatestRevisionDate: 02-Dec-2009; LatestRevisionNote: Updated to datasheet revision B, Dec-2008; DatasheetVersion: revB, Dec-2008; PackageVersion: revBB, Aug-2009; PackageReference: DFN-MF10; Publisher: Altium Limited; PackageDescription: 10-Lead Plastic Dual Flat, No Lead Package (MF) - 3x3x0.9mm Body [DFN]; Supplier 1: Digi-Key; Supplier Part Number 1: MCP4242T-103E/MF-ND; ComponentLink1Description: Datasheet; ComponentLink1URL: http://ww1.microchip.com/downloads/en/DeviceDoc/22059b.pdf; ComponentLink2Description: Packaging Specification; ComponentLink2URL: http://www.microchip.com/stellent/groups/techpub_sg/documents/packagingspec/en012702.pdf; ComponentLink3Description: Microchip.com Home; ComponentLink3URL: http://www.microchip.com/
footprint DFN-MF10 (SON, 10-Leads, Body 3x3mm, Pitch 0.5mm, Microchip Recommended)
pins: 1 ~{CS} (in), 2 SCK (in), 3 SDI (in), 4 VSS (power), 5 P1B, 6 P1W, 7 P0W, 8 P0B, 9 SDO (out), 10 VDD (power), 11 EP

## MCP4242T-103E/UN
designator U?
7/8-Bit Single/Dual SPI Digital POT with Non-Volatile Memory, 10-Pin MSOP, Extended Temperature, Tape and Reel; Published: 29-Jan-2009; LatestRevisionDate: 02-Dec-2009; LatestRevisionNote: Updated to datasheet revision B, Dec-2008; DatasheetVersion: revB, Dec-2008; PackageVersion: revBB, Aug-2009; PackageReference: MSOP-UN10; Publisher: Altium Limited; PackageDescription: 10-Lead Plastic Micro Small Outline Package (UN) [MSOP]; Supplier 1: Digi-Key; Supplier Part Number 1: MCP4242T-103E/UNTR-ND; ComponentLink1Description: Datasheet; ComponentLink1URL: http://ww1.microchip.com/downloads/en/DeviceDoc/22059b.pdf; ComponentLink2Description: Packaging Specification; ComponentLink2URL: http://www.microchip.com/stellent/groups/techpub_sg/documents/packagingspec/en012702.pdf; ComponentLink3Description: Microchip.com Home; ComponentLink3URL: http://www.microchip.com/
footprint MSOP-UN10_N (TSSOP, 10-Leads, Body 3x3mm, Pitch 0.5mm, IPC Medium Density)
footprint MSOP-UN10_L (TSSOP, 10-Leads, Body 3x3mm, Pitch 0.5mm, IPC High Density)
footprint MSOP-UN10_M (TSSOP, 10-Leads, Body 3x3mm, Pitch 0.5mm, IPC Low Density)
pins: 1 ~{CS} (in), 2 SCK (in), 3 SDI (in), 4 VSS (power), 5 P1B, 6 P1W, 7 P0W, 8 P0B, 9 SDO (out), 10 VDD (power)

## MCP4242T-104E/MF
designator U?
7/8-Bit Single/Dual SPI Digital POT with Non-Volatile Memory, 10-Pin DFN, Extended Temperature, Tape and Reel; Published: 29-Jan-2009; LatestRevisionDate: 02-Dec-2009; LatestRevisionNote: Updated to datasheet revision B, Dec-2008; DatasheetVersion: revB, Dec-2008; PackageVersion: revBB, Aug-2009; PackageReference: DFN-MF10; Publisher: Altium Limited; PackageDescription: 10-Lead Plastic Dual Flat, No Lead Package (MF) - 3x3x0.9mm Body [DFN]; Supplier 1: Digi-Key; Supplier Part Number 1: MCP4242T-104E/MF-ND; ComponentLink1Description: Datasheet; ComponentLink1URL: http://ww1.microchip.com/downloads/en/DeviceDoc/22059b.pdf; ComponentLink2Description: Packaging Specification; ComponentLink2URL: http://www.microchip.com/stellent/groups/techpub_sg/documents/packagingspec/en012702.pdf; ComponentLink3Description: Microchip.com Home; ComponentLink3URL: http://www.microchip.com/
footprint DFN-MF10 (SON, 10-Leads, Body 3x3mm, Pitch 0.5mm, Microchip Recommended)
pins: 1 ~{CS} (in), 2 SCK (in), 3 SDI (in), 4 VSS (power), 5 P1B, 6 P1W, 7 P0W, 8 P0B, 9 SDO (out), 10 VDD (power), 11 EP

## MCP4242T-104E/UN
designator U?
7/8-Bit Single/Dual SPI Digital POT with Non-Volatile Memory, 10-Pin MSOP, Extended Temperature, Tape and Reel; Published: 29-Jan-2009; LatestRevisionDate: 02-Dec-2009; LatestRevisionNote: Updated to datasheet revision B, Dec-2008; DatasheetVersion: revB, Dec-2008; PackageVersion: revBB, Aug-2009; PackageReference: MSOP-UN10; Publisher: Altium Limited; PackageDescription: 10-Lead Plastic Micro Small Outline Package (UN) [MSOP]; Supplier 1: Digi-Key; Supplier Part Number 1: MCP4242T-104E/UNTR-ND; ComponentLink1Description: Datasheet; ComponentLink1URL: http://ww1.microchip.com/downloads/en/DeviceDoc/22059b.pdf; ComponentLink2Description: Packaging Specification; ComponentLink2URL: http://www.microchip.com/stellent/groups/techpub_sg/documents/packagingspec/en012702.pdf; ComponentLink3Description: Microchip.com Home; ComponentLink3URL: http://www.microchip.com/
footprint MSOP-UN10_N (TSSOP, 10-Leads, Body 3x3mm, Pitch 0.5mm, IPC Medium Density)
footprint MSOP-UN10_L (TSSOP, 10-Leads, Body 3x3mm, Pitch 0.5mm, IPC High Density)
footprint MSOP-UN10_M (TSSOP, 10-Leads, Body 3x3mm, Pitch 0.5mm, IPC Low Density)
pins: 1 ~{CS} (in), 2 SCK (in), 3 SDI (in), 4 VSS (power), 5 P1B, 6 P1W, 7 P0W, 8 P0B, 9 SDO (out), 10 VDD (power)

## MCP4242T-502E/MF
designator U?
7/8-Bit Single/Dual SPI Digital POT with Non-Volatile Memory, 10-Pin DFN, Extended Temperature, Tape and Reel; Published: 29-Jan-2009; LatestRevisionDate: 02-Dec-2009; LatestRevisionNote: Updated to datasheet revision B, Dec-2008; DatasheetVersion: revB, Dec-2008; PackageVersion: revBB, Aug-2009; PackageReference: DFN-MF10; Publisher: Altium Limited; PackageDescription: 10-Lead Plastic Dual Flat, No Lead Package (MF) - 3x3x0.9mm Body [DFN]; Supplier 1: Digi-Key; Supplier Part Number 1: MCP4242T-502E/MF-ND; ComponentLink1Description: Datasheet; ComponentLink1URL: http://ww1.microchip.com/downloads/en/DeviceDoc/22059b.pdf; ComponentLink2Description: Packaging Specification; ComponentLink2URL: http://www.microchip.com/stellent/groups/techpub_sg/documents/packagingspec/en012702.pdf; ComponentLink3Description: Microchip.com Home; ComponentLink3URL: http://www.microchip.com/
footprint DFN-MF10 (SON, 10-Leads, Body 3x3mm, Pitch 0.5mm, Microchip Recommended)
pins: 1 ~{CS} (in), 2 SCK (in), 3 SDI (in), 4 VSS (power), 5 P1B, 6 P1W, 7 P0W, 8 P0B, 9 SDO (out), 10 VDD (power), 11 EP

## MCP4242T-502E/UN
designator U?
7/8-Bit Single/Dual SPI Digital POT with Non-Volatile Memory, 10-Pin MSOP, Extended Temperature, Tape and Reel; Published: 29-Jan-2009; LatestRevisionDate: 02-Dec-2009; LatestRevisionNote: Updated to datasheet revision B, Dec-2008; DatasheetVersion: revB, Dec-2008; PackageVersion: revBB, Aug-2009; PackageReference: MSOP-UN10; Publisher: Altium Limited; PackageDescription: 10-Lead Plastic Micro Small Outline Package (UN) [MSOP]; Supplier 1: Digi-Key; Supplier Part Number 1: MCP4242T-502E/UNTR-ND; ComponentLink1Description: Datasheet; ComponentLink1URL: http://ww1.microchip.com/downloads/en/DeviceDoc/22059b.pdf; ComponentLink2Description: Packaging Specification; ComponentLink2URL: http://www.microchip.com/stellent/groups/techpub_sg/documents/packagingspec/en012702.pdf; ComponentLink3Description: Microchip.com Home; ComponentLink3URL: http://www.microchip.com/
footprint MSOP-UN10_N (TSSOP, 10-Leads, Body 3x3mm, Pitch 0.5mm, IPC Medium Density)
footprint MSOP-UN10_L (TSSOP, 10-Leads, Body 3x3mm, Pitch 0.5mm, IPC High Density)
footprint MSOP-UN10_M (TSSOP, 10-Leads, Body 3x3mm, Pitch 0.5mm, IPC Low Density)
pins: 1 ~{CS} (in), 2 SCK (in), 3 SDI (in), 4 VSS (power), 5 P1B, 6 P1W, 7 P0W, 8 P0B, 9 SDO (out), 10 VDD (power)

## MCP4242T-503E/MF
designator U?
7/8-Bit Single/Dual SPI Digital POT with Non-Volatile Memory, 10-Pin DFN, Extended Temperature, Tape and Reel; Published: 29-Jan-2009; LatestRevisionDate: 02-Dec-2009; LatestRevisionNote: Updated to datasheet revision B, Dec-2008; DatasheetVersion: revB, Dec-2008; PackageVersion: revBB, Aug-2009; PackageReference: DFN-MF10; Publisher: Altium Limited; PackageDescription: 10-Lead Plastic Dual Flat, No Lead Package (MF) - 3x3x0.9mm Body [DFN]; Supplier 1: Digi-Key; Supplier Part Number 1: MCP4242T-503E/MF-ND; ComponentLink1Description: Datasheet; ComponentLink1URL: http://ww1.microchip.com/downloads/en/DeviceDoc/22059b.pdf; ComponentLink2Description: Packaging Specification; ComponentLink2URL: http://www.microchip.com/stellent/groups/techpub_sg/documents/packagingspec/en012702.pdf; ComponentLink3Description: Microchip.com Home; ComponentLink3URL: http://www.microchip.com/
footprint DFN-MF10 (SON, 10-Leads, Body 3x3mm, Pitch 0.5mm, Microchip Recommended)
pins: 1 ~{CS} (in), 2 SCK (in), 3 SDI (in), 4 VSS (power), 5 P1B, 6 P1W, 7 P0W, 8 P0B, 9 SDO (out), 10 VDD (power), 11 EP

## MCP4242T-503E/UN
designator U?
7/8-Bit Single/Dual SPI Digital POT with Non-Volatile Memory, 10-Pin MSOP, Extended Temperature, Tape and Reel; Published: 29-Jan-2009; LatestRevisionDate: 02-Dec-2009; LatestRevisionNote: Updated to datasheet revision B, Dec-2008; DatasheetVersion: revB, Dec-2008; PackageVersion: revBB, Aug-2009; PackageReference: MSOP-UN10; Publisher: Altium Limited; PackageDescription: 10-Lead Plastic Micro Small Outline Package (UN) [MSOP]; Supplier 1: Digi-Key; Supplier Part Number 1: MCP4242T-503E/UNTR-ND; ComponentLink1Description: Datasheet; ComponentLink1URL: http://ww1.microchip.com/downloads/en/DeviceDoc/22059b.pdf; ComponentLink2Description: Packaging Specification; ComponentLink2URL: http://www.microchip.com/stellent/groups/techpub_sg/documents/packagingspec/en012702.pdf; ComponentLink3Description: Microchip.com Home; ComponentLink3URL: http://www.microchip.com/
footprint MSOP-UN10_N (TSSOP, 10-Leads, Body 3x3mm, Pitch 0.5mm, IPC Medium Density)
footprint MSOP-UN10_L (TSSOP, 10-Leads, Body 3x3mm, Pitch 0.5mm, IPC High Density)
footprint MSOP-UN10_M (TSSOP, 10-Leads, Body 3x3mm, Pitch 0.5mm, IPC Low Density)
pins: 1 ~{CS} (in), 2 SCK (in), 3 SDI (in), 4 VSS (power), 5 P1B, 6 P1W, 7 P0W, 8 P0B, 9 SDO (out), 10 VDD (power)

## MCP4251-103E/ML
designator U?
7/8-Bit Single/Dual SPI Digital POT with Volatile Memory, 16-Pin QFN, Extended Temperature; Published: 29-Jan-2009; LatestRevisionDate: 02-Dec-2009; LatestRevisionNote: Updated to datasheet revision B, Dec-2008; DatasheetVersion: revB, Dec-2008; PackageVersion: revBB, Aug-2009; PackageReference: QFN-ML16; Publisher: Altium Limited; PackageDescription: 16-Lead Plastic Quad Flat, No Lead Package (ML) - 4x4x0.9 mm Body [QFN]; Supplier 1: Digi-Key; Supplier Part Number 1: MCP4251-103E/ML-ND; Code_JEDEC: MO-220; Code_IPC: QFN65P400X400-16V2; ComponentLink1Description: Datasheet; ComponentLink1URL: http://ww1.microchip.com/downloads/en/DeviceDoc/22060b.pdf; ComponentLink2Description: Packaging Specification; ComponentLink2URL: http://www.microchip.com/stellent/groups/techpub_sg/documents/packagingspec/en012702.pdf; ComponentLink3Description: Microchip.com Home; ComponentLink3URL: http://www.microchip.com/
footprint QFN-ML16_N (QFN, 16-Leads, Body 4x4 mm, Pitch 0.65mm, IPC Medium Density)
footprint QFN-ML16_L (QFN, 16-Leads, Body 4x4 mm, Pitch 0.65mm, IPC High Density)
footprint QFN-ML16_M (QFN, 16-Leads, Body 4x4 mm, Pitch 0.65mm, IPC Low Density)
pins: 1 SCK (in), 2 SDI (in), 3 VSS (power), 4 VSS (power), 5 P1B, 6 P1W, 7 P1A, 8 P0A, 9 P0W, 10 P0B, 11 NC, 12 NC, 13 ~{SHDN} (in), 14 SDO (out), 15 VDD (power), 16 ~{CS} (in), 17 EP

## MCP4251-103E/P
designator U?
7/8-Bit Single/Dual SPI Digital POT with Volatile Memory, 14-Pin PDIP, Extended Temperature; Published: 29-Jan-2009; LatestRevisionDate: 02-Dec-2009; LatestRevisionNote: Updated to datasheet revision B, Dec-2008; DatasheetVersion: revB, Dec-2008; PackageVersion: revBB, Aug-2009; PackageReference: PDIP300-P14; Publisher: Altium Limited; PackageDescription: 14-Lead Plastic Dual In-Line (P) - 300 mil Body [PDIP]; Supplier 1: Digi-Key; Supplier Part Number 1: MCP4251-103E/P-ND; Supplier 2: Farnell; Supplier Part Number 2: 1578442; ComponentLink1Description: Datasheet; ComponentLink1URL: http://ww1.microchip.com/downloads/en/DeviceDoc/22060b.pdf; ComponentLink2Description: Packaging Specification; ComponentLink2URL: http://www.microchip.com/stellent/groups/techpub_sg/documents/packagingspec/en012702.pdf; ComponentLink3Description: Microchip.com Home; ComponentLink3URL: http://www.microchip.com/
footprint PDIP300-P14 (DIP, 14-Leads, Row Spacing 7.62mm, Pitch 2.54mm, Body 19.2x6.6mm)
pins: 1 ~{CS} (in), 2 SCK (in), 3 SDI (in), 4 VSS (power), 5 P1B, 6 P1W, 7 P1A, 8 P0A, 9 P0W, 10 P0B, 11 NC, 12 ~{SHDN} (in), 13 SDO (out), 14 VDD (power)

## MCP4251-103E/SL
designator U?
7/8-Bit Single/Dual SPI Digital POT with Volatile Memory, 14-Pin SOIC 150mil, Extended Temperature; Published: 29-Jan-2009; LatestRevisionDate: 02-Dec-2009; LatestRevisionNote: Updated to datasheet revision B, Dec-2008; DatasheetVersion: revB, Dec-2008; PackageVersion: revBB, Aug-2009; PackageReference: SOIC-SL14; Publisher: Altium Limited; PackageDescription: 14-Lead Plastic Small Outline (SL) - Narrow, 3.90mm Body [SOIC]; Supplier 1: Digi-Key; Supplier Part Number 1: MCP4251-103E/SL-ND; Supplier 2: Farnell; Supplier Part Number 2: 1578444; Code_JEDEC: MS-012-AB; Code_IPC: SOIC127P600-14; ComponentLink1Description: Datasheet; ComponentLink1URL: http://ww1.microchip.com/downloads/en/DeviceDoc/22060b.pdf; ComponentLink2Description: Packaging Specification; ComponentLink2URL: http://www.microchip.com/stellent/groups/techpub_sg/documents/packagingspec/en012702.pdf; ComponentLink3Description: Microchip.com Home; ComponentLink3URL: http://www.microchip.com/
footprint SOIC-SL14_N (SOIC, 14-Leads, Body 8.7x3.9mm, Pitch 1.27mm, IPC Medium Density)
footprint SOIC-SL14_L (SOIC, 14-Leads, Body 8.7x3.9mm, Pitch 1.27mm, IPC High Density)
footprint SOIC-SL14_M (SOIC, 14-Leads, Body 8.7x3.9mm, Pitch 1.27mm, IPC Low Density)
pins: 1 ~{CS} (in), 2 SCK (in), 3 SDI (in), 4 VSS (power), 5 P1B, 6 P1W, 7 P1A, 8 P0A, 9 P0W, 10 P0B, 11 NC, 12 ~{SHDN} (in), 13 SDO (out), 14 VDD (power)

## MCP4251-103E/ST
designator U?
7/8-Bit Single/Dual SPI Digital POT with Volatile Memory, 14-Pin TSSOP, Extended Temperature; Published: 29-Jan-2009; LatestRevisionDate: 02-Dec-2009; LatestRevisionNote: Updated to datasheet revision B, Dec-2008; DatasheetVersion: revB, Dec-2008; PackageVersion: revBB, Aug-2009; PackageReference: TSSOP-ST14; Publisher: Altium Limited; PackageDescription: 14-Lead Plastic Thin Shrink Small Outline (ST) - 4.4mm Body [TSSOP]; Supplier 1: Digi-Key; Supplier Part Number 1: MCP4251-103E/ST-ND; ComponentLink1Description: Datasheet; ComponentLink1URL: http://ww1.microchip.com/downloads/en/DeviceDoc/22060b.pdf; ComponentLink2Description: Packaging Specification; ComponentLink2URL: http://www.microchip.com/stellent/groups/techpub_sg/documents/packagingspec/en012702.pdf; ComponentLink3Description: Microchip.com Home; ComponentLink3URL: http://www.microchip.com/
footprint TSSOP-ST14_N (TSOP, 14-Leads, Body 5x4.4mm, Pitch 0.65mm, IPC Medium Density)
footprint TSSOP-ST14_L (TSOP, 14-Leads, Body 5x4.4mm, Pitch 0.65mm, IPC High Density)
footprint TSSOP-ST14_M (TSOP, 14-Leads, Body 5x4.4mm, Pitch 0.65mm, IPC Low Density)
pins: 1 ~{CS} (in), 2 SCK (in), 3 SDI (in), 4 VSS (power), 5 P1B, 6 P1W, 7 P1A, 8 P0A, 9 P0W, 10 P0B, 11 NC, 12 ~{SHDN} (in), 13 SDO (out), 14 VDD (power)

## MCP4251-104E/ML
designator U?
7/8-Bit Single/Dual SPI Digital POT with Volatile Memory, 16-Pin QFN, Extended Temperature; Published: 29-Jan-2009; LatestRevisionDate: 02-Dec-2009; LatestRevisionNote: Updated to datasheet revision B, Dec-2008; DatasheetVersion: revB, Dec-2008; PackageVersion: revBB, Aug-2009; PackageReference: QFN-ML16; Publisher: Altium Limited; PackageDescription: 16-Lead Plastic Quad Flat, No Lead Package (ML) - 4x4x0.9 mm Body [QFN]; Supplier 1: Digi-Key; Supplier Part Number 1: MCP4251-104E/ML-ND; Code_JEDEC: MO-220; Code_IPC: QFN65P400X400-16V2; ComponentLink1Description: Datasheet; ComponentLink1URL: http://ww1.microchip.com/downloads/en/DeviceDoc/22060b.pdf; ComponentLink2Description: Packaging Specification; ComponentLink2URL: http://www.microchip.com/stellent/groups/techpub_sg/documents/packagingspec/en012702.pdf; ComponentLink3Description: Microchip.com Home; ComponentLink3URL: http://www.microchip.com/
footprint QFN-ML16_N (QFN, 16-Leads, Body 4x4 mm, Pitch 0.65mm, IPC Medium Density)
footprint QFN-ML16_L (QFN, 16-Leads, Body 4x4 mm, Pitch 0.65mm, IPC High Density)
footprint QFN-ML16_M (QFN, 16-Leads, Body 4x4 mm, Pitch 0.65mm, IPC Low Density)
pins: 1 SCK (in), 2 SDI (in), 3 VSS (power), 4 VSS (power), 5 P1B, 6 P1W, 7 P1A, 8 P0A, 9 P0W, 10 P0B, 11 NC, 12 NC, 13 ~{SHDN} (in), 14 SDO (out), 15 VDD (power), 16 ~{CS} (in), 17 EP

## MCP4251-104E/P
designator U?
7/8-Bit Single/Dual SPI Digital POT with Volatile Memory, 14-Pin PDIP, Extended Temperature; Published: 29-Jan-2009; LatestRevisionDate: 02-Dec-2009; LatestRevisionNote: Updated to datasheet revision B, Dec-2008; DatasheetVersion: revB, Dec-2008; PackageVersion: revBB, Aug-2009; PackageReference: PDIP300-P14; Publisher: Altium Limited; PackageDescription: 14-Lead Plastic Dual In-Line (P) - 300 mil Body [PDIP]; Supplier 1: Digi-Key; Supplier Part Number 1: MCP4251-104E/P-ND; ComponentLink1Description: Datasheet; ComponentLink1URL: http://ww1.microchip.com/downloads/en/DeviceDoc/22060b.pdf; ComponentLink2Description: Packaging Specification; ComponentLink2URL: http://www.microchip.com/stellent/groups/techpub_sg/documents/packagingspec/en012702.pdf; ComponentLink3Description: Microchip.com Home; ComponentLink3URL: http://www.microchip.com/
footprint PDIP300-P14 (DIP, 14-Leads, Row Spacing 7.62mm, Pitch 2.54mm, Body 19.2x6.6mm)
pins: 1 ~{CS} (in), 2 SCK (in), 3 SDI (in), 4 VSS (power), 5 P1B, 6 P1W, 7 P1A, 8 P0A, 9 P0W, 10 P0B, 11 NC, 12 ~{SHDN} (in), 13 SDO (out), 14 VDD (power)